# Altium schematic symbol library ATSHA204A-MAHDA.Schlib: 1 symbol
Pins are listed as number, name and electrical type; pins without a type are passive.

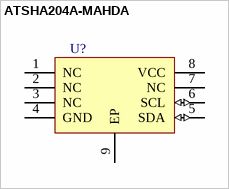
[diagram p0: symbol ATSHA204A-MAHDA]

## ATSHA204A-MAHDA
designator U?
SHA-256 Hash Algorithm with Message Authentication Code IC
pins: 1 NC, 2 NC, 3 NC, 4 GND (power), 5 SDA (io), 6 SCL (io), 7 NC, 8 VCC (power), 9 EP